# EAGLE library part ARDUINO_NANO (library solarsim)
Arduino Nano, Through Hole and SMT.
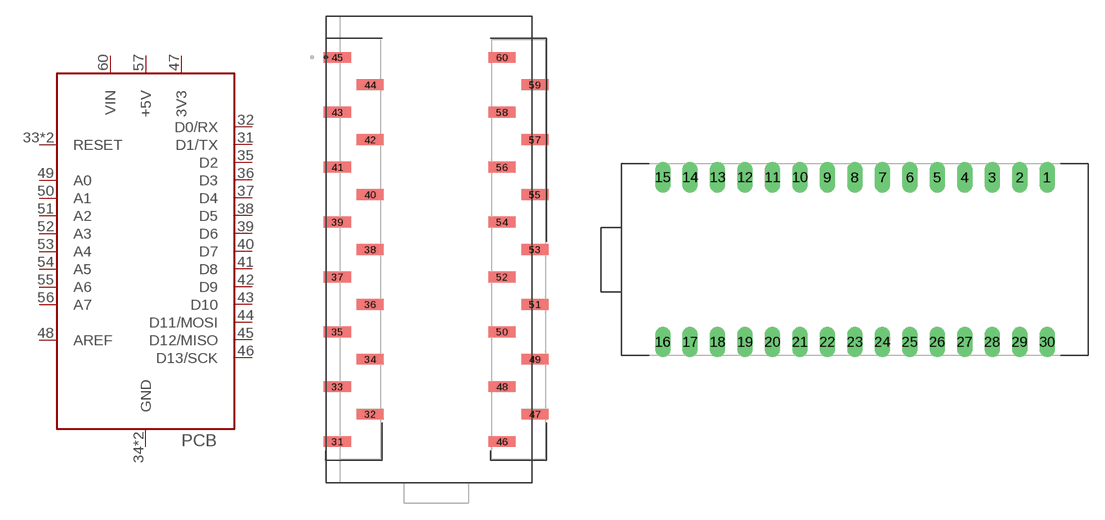
[diagram p1: symbol with the pads of ARDUINO_NANO_SHIELD_SMT; footprints ARDUINO_NANO_SHIELD_SMT, ARDUINO_NANO_SHIELD]

Designator prefix PCB

## ARDUINO_NANOSMT (AVAILABILITY: Unavailable; DESCRIPTION: Dev.kit: Arduino; UART; ICSP, USB B mini, pin strips; MF: Arduino; MP: ARDUINO NANO; PACKAGE: None; PRICE: None)  [ARDUINO_NANO_SHIELD_SMT]
31  D1/TX
32  D0/RX
33  RESET  in
34  GND  pwr
35  D2
36  D3
37  D4
38  D5
39  D6
40  D7
41  D8
42  D9
43  D10
44  D11/MOSI
45  D12/MISO
46  D13/SCK
47  3V3  pwr
48  AREF  pwr
49  A0  in
50  A1  in
51  A2  in
52  A3  in
53  A4  in
54  A5  in
55  A6  in
56  A7  in
57  +5V  pwr
58  RESET  in
59  GND  pwr
60  VIN  pwr

## ARDUINO_NANO  [ARDUINO_NANO_SHIELD]
1  D1/TX
2  D0/RX
3  RESET  in
4  GND  pwr
5  D2
6  D3
7  D4
8  D5
9  D6
10  D7
11  D8
12  D9
13  D10
14  D11/MOSI
15  D12/MISO
16  D13/SCK
17  3V3  pwr
18  AREF  pwr
19  A0  in
20  A1  in
21  A2  in
22  A3  in
23  A4  in
24  A5  in
25  A6  in
26  A7  in
27  +5V  pwr
28  RESET  in
29  GND  pwr
30  VIN  pwr

## Footprint ARDUINO_NANO_SHIELD_SMT (pad centres in mm)
smd 2.5 x 1: 31 -9.14,-17.78; 32 -6.1,-15.24; 33 -9.14,-12.7; 34 -6.1,-10.16; 35 -9.14,-7.62; 36 -6.1,-5.08; 37 -9.14,-2.54; 38 -6.1,0; 39 -9.14,2.54; 40 -6.1,5.08; 41 -9.14,7.62; 42 -6.1,10.16; 43 -9.14,12.7; 44 -6.1,15.24; 45 -9.14,17.78; 46 6.1,-17.78; 47 9.14,-15.24; 48 6.1,-12.7; 49 9.14,-10.16; 50 6.1,-7.62; 51 9.14,-5.08; 52 6.1,-2.54; 53 9.14,0; 54 6.1,2.54; 55 9.14,5.08; 56 6.1,7.62; 57 9.14,10.16; 58 6.1,12.7; 59 9.14,15.24; 60 6.1,17.78

## Footprint ARDUINO_NANO_SHIELD (pad centres in mm)
drill 0.914 long: 1 19.05,7.62; 2 16.51,7.62; 3 13.97,7.62; 4 11.43,7.62; 5 8.89,7.62; 6 6.35,7.62; 7 3.81,7.62; 8 1.27,7.62; 9 -1.27,7.62; 10 -3.81,7.62; 11 -6.35,7.62; 12 -8.89,7.62; 13 -11.43,7.62; 14 -13.97,7.62; 15 -16.51,7.62; 16 -16.51,-7.62; 17 -13.97,-7.62; 18 -11.43,-7.62; 19 -8.89,-7.62; 20 -6.35,-7.62; 21 -3.81,-7.62; 22 -1.27,-7.62; 23 1.27,-7.62; 24 3.81,-7.62; 25 6.35,-7.62; 26 8.89,-7.62; 27 11.43,-7.62; 28 13.97,-7.62; 29 16.51,-7.62; 30 19.05,-7.62